# EAGLE library part D15 (library Connectors)
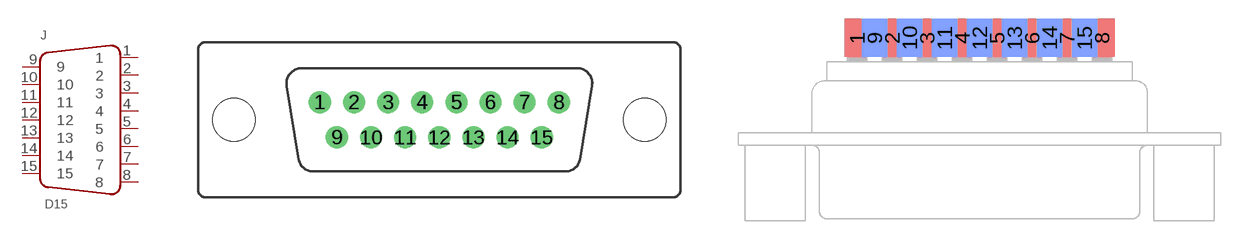
[diagram p23: symbol with the pads of 172-E15-113R001; footprints 172-E15-113R001, DB15_SMD2]

Designator prefix J

## D15-MALE-PTH  [172-E15-113R001]
1  1
2  2
3  3
4  4
5  5
6  6
7  7
8  8
9  9
10  10
11  11
12  12
13  13
14  14
15  15

## D15-SMD2  [DB15_SMD2]
Pads as for 172-E15-113R001

## D15-FEMALE-PTH  [D15_PTH]
Pads as for 172-E15-113R001

## Footprint 172-E15-113R001 (pad centres in mm)
drill 1.194: 1 -9.69,1.422; 2 -6.921,1.422; 3 -4.153,1.422; 4 -1.384,1.422; 5 1.384,1.422; 6 4.153,1.422; 7 6.921,1.422; 8 9.69,1.422; 9 -8.306,-1.422; 10 -5.537,-1.422; 11 -2.769,-1.422; 12 0,-1.422; 13 2.769,-1.422; 14 5.537,-1.422; 15 8.306,-1.422
hole 3.48 at 16.66,0
hole 3.48 at -16.66,0

## Footprint DB15_SMD2 (pad centres in mm)
smd 2 x 3: 1 -9.695,0; 2 -6.925,0; 3 -4.155,0; 4 -1.385,0; 5 1.385,0; 6 4.155,0; 7 6.925,0; 8 9.695,0
smd 2 x 3 bottom: 9 -8.31,0; 10 -5.54,0; 11 -2.77,0; 12 0,0; 13 2.77,0; 14 5.54,0; 15 8.31,0

## Footprint D15_PTH (pad centres in mm)
drill 1.1 pad 1.85: 1 9.695,1.42; 2 6.925,1.42; 3 4.155,1.42; 4 1.385,1.42; 5 -1.385,1.42; 6 -4.155,1.42; 7 -6.925,1.42; 8 -9.695,1.42; 9 8.31,-1.42; 10 5.54,-1.42; 11 2.77,-1.42; 12 0,-1.42; 13 -2.77,-1.42; 14 -5.54,-1.42; 15 -8.31,-1.42
drill 3.05 pad 5.715: P$16 16.65,0; P$17 -16.65,0